# EAGLE library part AD9512 (library NewSDR)
Analog Devices 1.2 Ghz Clock Distribution, 1.6 GHz Inputs, Dividers, Delay Adjust, Five Outputs
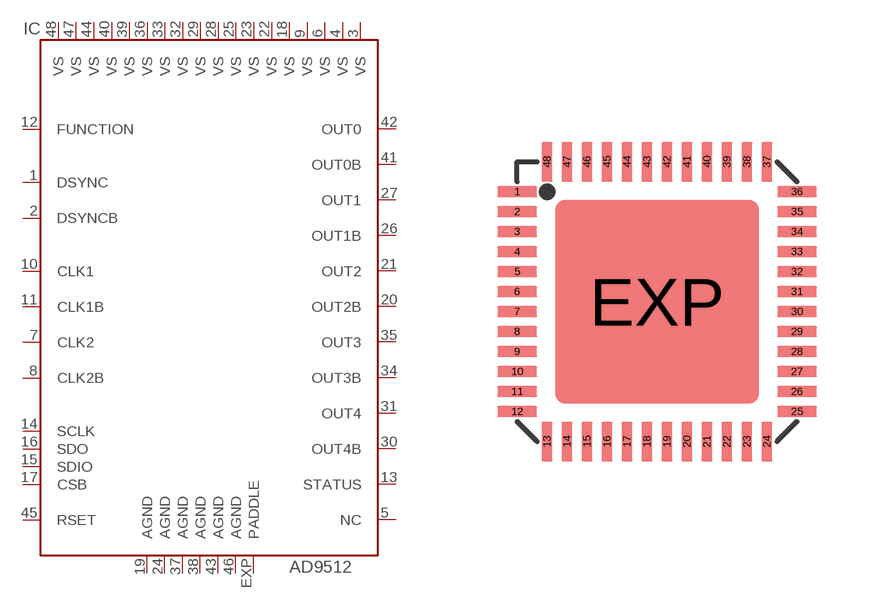
[diagram p157: symbol with the pads of LFCSP48; footprint LFCSP48]

Designator prefix IC

## AD9512  [LFCSP48]
1  DSYNC  in
2  DSYNCB  in
3  VS  pwr
4  VS  pwr
5  NC  nc
6  VS  pwr
7  CLK2  in
8  CLK2B  in
9  VS  pwr
10  CLK1  in
11  CLK1B  in
12  FUNCTION  in
13  STATUS  out
14  SCLK  in
15  SDIO
16  SDO  out
17  CSB  in
18  VS  pwr
19  AGND  pwr
20  OUT2B  out
21  OUT2  out
22  VS  pwr
23  VS  pwr
24  AGND  pwr
25  VS  pwr
26  OUT1B  out
27  OUT1  out
28  VS  pwr
29  VS  pwr
30  OUT4B  out
31  OUT4  out
32  VS  pwr
33  VS  pwr
34  OUT3B  out
35  OUT3  out
36  VS  pwr
37  AGND  pwr
38  AGND  pwr
39  VS  pwr
40  VS  pwr
41  OUT0B  out
42  OUT0  out
43  AGND  pwr
44  VS  pwr
45  RSET  pas
46  AGND  pwr
47  VS  pwr
48  VS  pwr
EXP  PADDLE  pwr

## Footprint LFCSP48 (pad centres in mm)
48-Lead Lead Frame Chip Scale Package 7 mm × 7 mm (CP-48) Source: www.analog.com
smd 1 x 0.28: 1 -3.5,2.75; 2 -3.5,2.25; 3 -3.5,1.75; 4 -3.5,1.25; 5 -3.5,0.75; 6 -3.5,0.25; 7 -3.5,-0.25; 8 -3.5,-0.75; 9 -3.5,-1.25; 10 -3.5,-1.75; 11 -3.5,-2.25; 12 -3.5,-2.75; 25 3.5,-2.75; 26 3.5,-2.25; 27 3.5,-1.75; 28 3.5,-1.25; 29 3.5,-0.75; 30 3.5,-0.25; 31 3.5,0.25; 32 3.5,0.75; 33 3.5,1.25; 34 3.5,1.75; 35 3.5,2.25; 36 3.5,2.75
smd 0.28 x 1: 13 -2.75,-3.5; 14 -2.25,-3.5; 15 -1.75,-3.5; 16 -1.25,-3.5; 17 -0.75,-3.5; 18 -0.25,-3.5; 19 0.25,-3.5; 20 0.75,-3.5; 21 1.25,-3.5; 22 1.75,-3.5; 23 2.25,-3.5; 24 2.75,-3.5; 37 2.75,3.5; 38 2.25,3.5; 39 1.75,3.5; 40 1.25,3.5; 41 0.75,3.5; 42 0.25,3.5; 43 -0.25,3.5; 44 -0.75,3.5; 45 -1.25,3.5; 46 -1.75,3.5; 47 -2.25,3.5; 48 -2.75,3.5
smd 5.1 x 5.1: EXP 0,0